# Altium schematic symbol library EXP_COMP.Schlib: 1 symbol
Pins are listed as number, name and electrical type; pins without a type are passive.

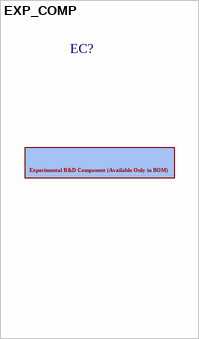
[diagram p0: symbol EXP_COMP]

## EXP_COMP
designator EC?  (mechanical)
fill the "Comment" with the required Part Number
text: Experimental R&D Component (Available Only in BOM)